# Altium integrated library BS250FTA.IntLib: 1 symbol
Pins are listed as number, name and electrical type; pins without a type are passive.

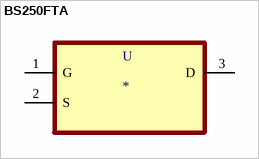
[diagram p0: symbol BS250FTA]

## BS250FTA
designator U
P-Channel 45V 90mA (Ta) 330mW (Ta) Surface Mount SOT-23-3; MF: Diodes Inc.; MP: BS250FTA; DigiKey-Purchase-URL: https://snapeda.com/shop?store=DigiKey&id=699; SnapEDA_Link: https://www.snapeda.com/parts/BS250FTA/Diodes%20Inc./view-part/699/?ref=snap; Availability: Unavailable; Value: *; Price: None; Package: SOT-23-3 Diodes Inc.
footprint SOT95P240X110-3N
pins: 1 G, 2 S, 3 D